# Altium footprint library 0805 3 TERMINAL.PcbLib: 1 footprints
Each footprint in its own frame and in the unit in brackets; x right, y up, seen from the top. Pads: shape width x height; smd on the part's side, far side on the other; paste and mask are expansions set on the pad; w line width, h text height; cw(c..) or ccw(c..) is an arc to the next point about the centre after c.
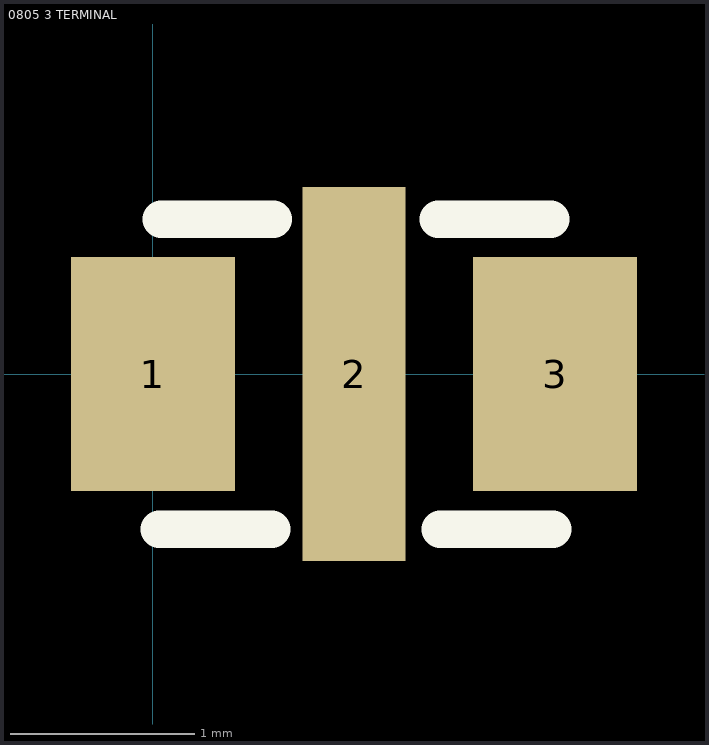
[diagram p0: the footprint, top view; thin cyan lines are the x and y axes]

## 0805 3 TERMINAL [mm]
pads (3):
  rect 0.89x1.27 smd: 1(0,0) 3(2.18,0)
  rect 0.56x2.03 smd: 2(1.09,0)
Top Overlay:
  lines w0.203: 0.034,-0.841 0.643,-0.841 ; 0.044,0.838 0.654,0.838 ; 1.547,0.838 2.157,0.838 ; 1.558,-0.841 2.167,-0.841
3D body: height 0.78, standoff 0, extent 0.101,-0.628 2.101,0.622